# Altium integrated library Maxim Digital Potentiometers.IntLib: 1045 symbols (part 24 of 42)
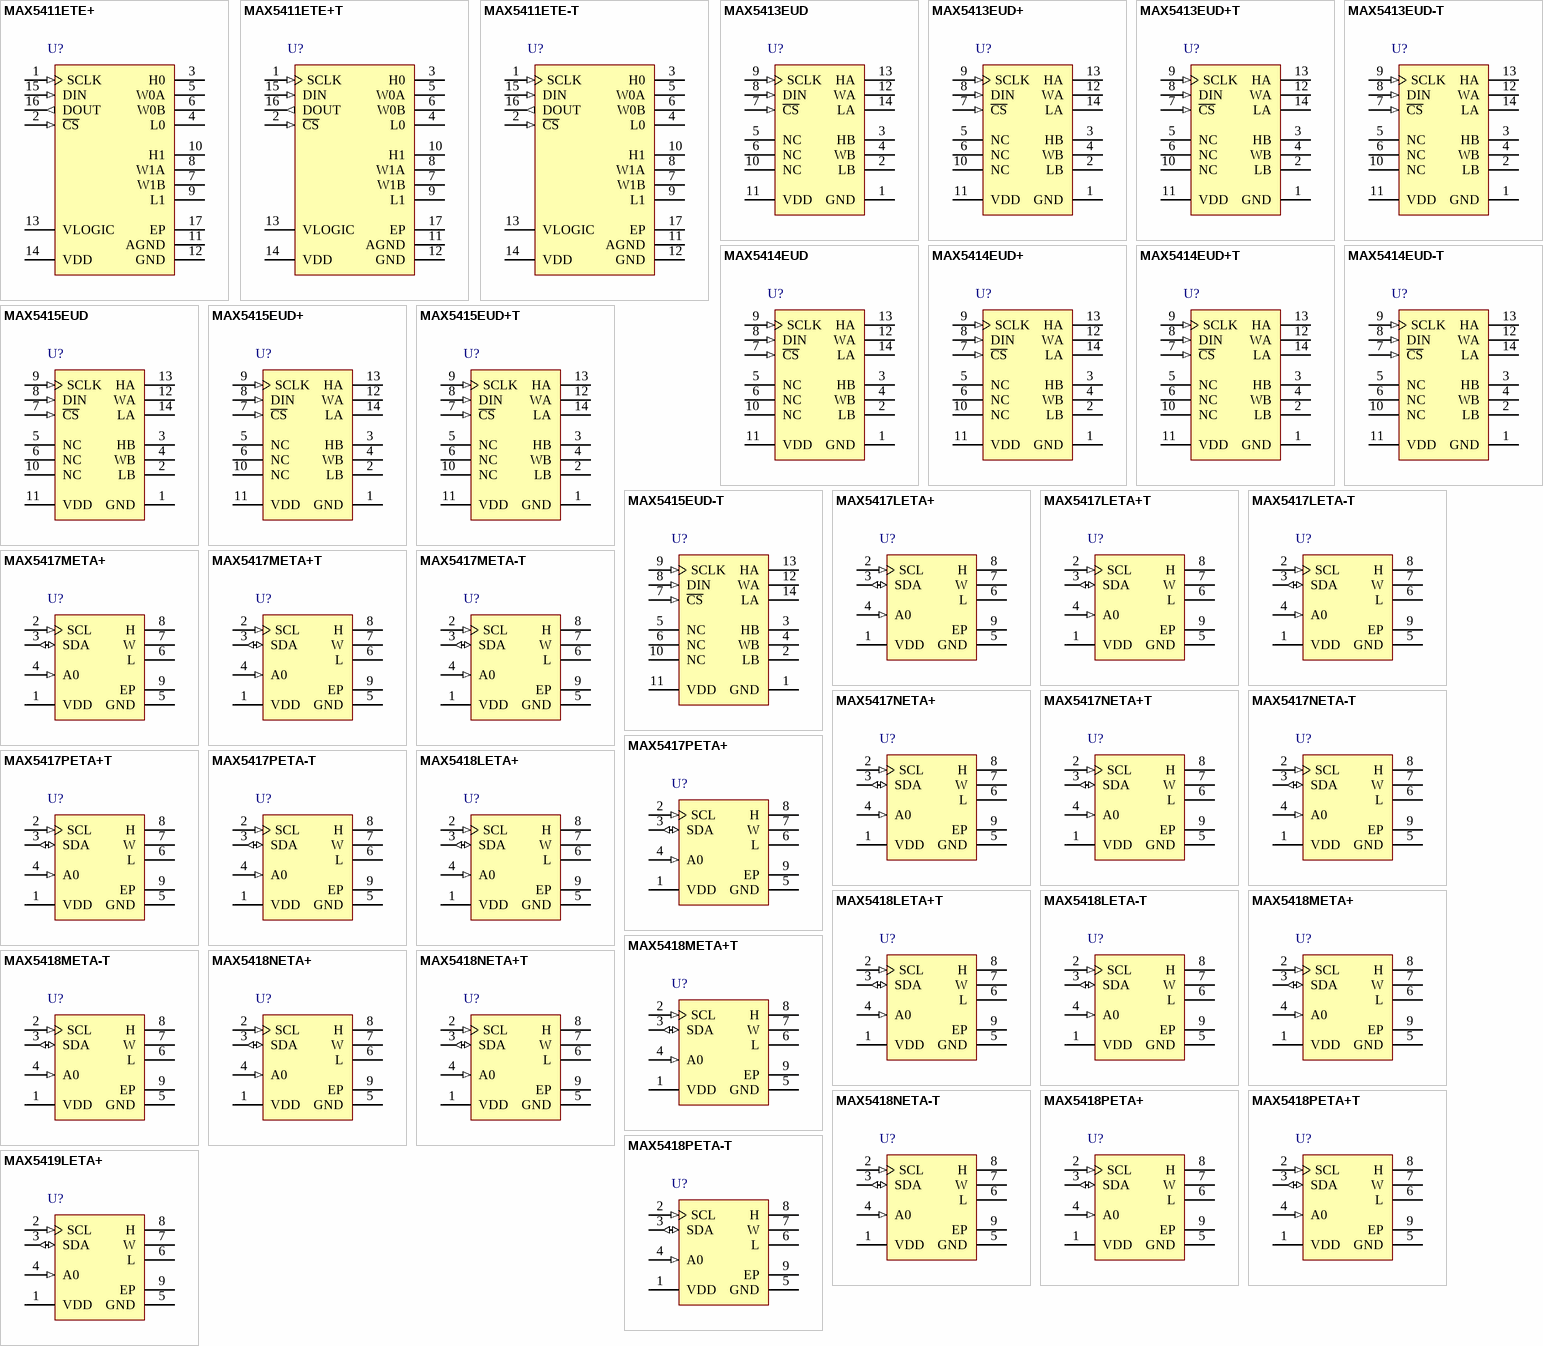
[diagram p52: symbols MAX5411ETE+ to MAX5419LETA+]

## MAX5417META+
designator U?
50 kOhm, I2C-Interface Digital Potentiometer with 2-Wire Serial Control Interface, Non-Volatile, Linear Taper, 256 Steps, -40 to 85 degC, 8-pin TDFN-EP (T833+2), Pb-Free; PartNumber: MAX5417META+; DatasheetVersion: Rev. 4; PackageVersion: Rev. J, 08/2009; PackageReference: T833+2; PackageDescription: 8-Pin Plastic Very Very Thin Dual Flatpack No Leads, Exposed Pad (T833+2); Supplier 1: Mouser; Supplier Part Number 1: N/A; Control Interface: 2-Wire Serial; Features: EEPROM Wiper Memory; Mounting Technology: Surface Mount; Code_JEDEC: MO229; ComponentLink1Description: Manufacturer URL; ComponentLink1URL: http://www.maximintegrated.com/; ComponentLink2Description: Datasheet; ComponentLink2URL: http://datasheets.maximintegrated.com/en/ds/MAX5417-MAX5419.pdf; ComponentLink3Description: Package Specification; ComponentLink3URL: http://pdfserv.maximintegrated.com/package_dwgs/21-0137.PDF
footprint MAXM-T833+2_V (SON, 8-Leads, Body 3x3 mm, Pitch 0.65mm, Thermal Pad 2.3x1.5mm)
pins: 1 VDD (power) "Power-Supply Input. 2.7V to 5.25V voltage range. Bypass with a 0.1uF capacitor from VDD to GND.", 2 SCL (in) "I2C-Interface Clock Input", 3 SDA (io) "I2C-Interface Data Input", 4 A0 (in) "Address Input. Sets the A0 bit in the device ID address.", 5 GND (power) "Ground", 6 L "Low Terminal", 7 W "Wiper Terminal", 8 H "High Terminal", 9 EP (power) "Exposed Pad. Internally connected to GND. Connect to a large ground plane to maximize thermal performance. Not intended as an electrical point."

## MAX5417META+T
designator U?
50 kOhm, I2C-Interface Digital Potentiometer with 2-Wire Serial Control Interface, Non-Volatile, Linear Taper, 256 Steps, -40 to 85 degC, 8-pin TDFN-EP (T833+2), Pb-Free, Tape and Reel; PartNumber: MAX5417META+T; DatasheetVersion: Rev. 4; PackageVersion: Rev. J, 08/2009; PackageReference: T833+2; PackageDescription: 8-Pin Plastic Very Very Thin Dual Flatpack No Leads, Exposed Pad (T833+2); Supplier 1: Digi-Key; Supplier Part Number 1: MAX5417META+TTR-ND; Supplier 2: Digi-Key; Supplier Part Number 2: MAX5417META+TCT-ND; Supplier 3: Digi-Key; Supplier Part Number 3: MAX5417META+TDKR-ND; Supplier 4: Mouser; Supplier Part Number 4: 700-MAX5417METAT; Control Interface: 2-Wire Serial; Features: EEPROM Wiper Memory; Mounting Technology: Surface Mount; Code_JEDEC: MO229; ComponentLink1Description: Manufacturer URL; ComponentLink1URL: http://www.maximintegrated.com/; ComponentLink2Description: Datasheet; ComponentLink2URL: http://datasheets.maximintegrated.com/en/ds/MAX5417-MAX5419.pdf; ComponentLink3Description: Package Specification; ComponentLink3URL: http://pdfserv.maximintegrated.com/package_dwgs/21-0137.PDF
footprint MAXM-T833+2_V (SON, 8-Leads, Body 3x3 mm, Pitch 0.65mm, Thermal Pad 2.3x1.5mm)
pins: 1 VDD (power) "Power-Supply Input. 2.7V to 5.25V voltage range. Bypass with a 0.1uF capacitor from VDD to GND.", 2 SCL (in) "I2C-Interface Clock Input", 3 SDA (io) "I2C-Interface Data Input", 4 A0 (in) "Address Input. Sets the A0 bit in the device ID address.", 5 GND (power) "Ground", 6 L "Low Terminal", 7 W "Wiper Terminal", 8 H "High Terminal", 9 EP (power) "Exposed Pad. Internally connected to GND. Connect to a large ground plane to maximize thermal performance. Not intended as an electrical point."

## MAX5417META-T
designator U?
50 kOhm, I2C-Interface Digital Potentiometer with 2-Wire Serial Control Interface, Non-Volatile, Linear Taper, 256 Steps, -40 to 85 degC, 8-pin TDFN-EP (T833-2), Tape and Reel; PartNumber: MAX5417META-T; DatasheetVersion: Rev. 4; PackageVersion: Rev. J, 08/2009; PackageReference: T833-2; PackageDescription: 8-Pin Plastic Very Very Thin Dual Flatpack No Leads, Exposed Pad, Body 3 x 3 mm, Pitch 0.65 mm; Supplier 1: Mouser; Supplier Part Number 1: N/A; Control Interface: 2-Wire Serial; Features: EEPROM Wiper Memory; Mounting Technology: Surface Mount; Code_JEDEC: MO229; ComponentLink1Description: Manufacturer URL; ComponentLink1URL: http://www.maximintegrated.com/; ComponentLink2Description: Datasheet; ComponentLink2URL: http://datasheets.maximintegrated.com/en/ds/MAX5417-MAX5419.pdf; ComponentLink3Description: Package Specification; ComponentLink3URL: http://pdfserv.maximintegrated.com/package_dwgs/21-0137.PDF
footprint MAXM-T833-2_V (SON, 8-Leads, Body 3x3mm, Pitch 0.65mm, Thermal Pad 2.3x1.5mm, Recommended)
pins: 1 VDD (power) "Power-Supply Input. 2.7V to 5.25V voltage range. Bypass with a 0.1uF capacitor from VDD to GND.", 2 SCL (in) "I2C-Interface Clock Input", 3 SDA (io) "I2C-Interface Data Input", 4 A0 (in) "Address Input. Sets the A0 bit in the device ID address.", 5 GND (power) "Ground", 6 L "Low Terminal", 7 W "Wiper Terminal", 8 H "High Terminal", 9 EP (power) "Exposed Pad. Internally connected to GND. Connect to a large ground plane to maximize thermal performance. Not intended as an electrical point."

## MAX5417NETA+
designator U?
50 kOhm, I2C-Interface Digital Potentiometer with 2-Wire Serial Control Interface, Non-Volatile, Linear Taper, 256 Steps, -40 to 85 degC, 8-pin TDFN-EP (T833+2), Pb-Free; PartNumber: MAX5417NETA+; DatasheetVersion: Rev. 4; PackageVersion: Rev. J, 08/2009; PackageReference: T833+2; PackageDescription: 8-Pin Plastic Very Very Thin Dual Flatpack No Leads, Exposed Pad (T833+2); Supplier 1: Mouser; Supplier Part Number 1: N/A; Control Interface: 2-Wire Serial; Features: EEPROM Wiper Memory; Mounting Technology: Surface Mount; Code_JEDEC: MO229; ComponentLink1Description: Manufacturer URL; ComponentLink1URL: http://www.maximintegrated.com/; ComponentLink2Description: Datasheet; ComponentLink2URL: http://datasheets.maximintegrated.com/en/ds/MAX5417-MAX5419.pdf; ComponentLink3Description: Package Specification; ComponentLink3URL: http://pdfserv.maximintegrated.com/package_dwgs/21-0137.PDF
footprint MAXM-T833+2_V (SON, 8-Leads, Body 3x3 mm, Pitch 0.65mm, Thermal Pad 2.3x1.5mm)
pins: 1 VDD (power) "Power-Supply Input. 2.7V to 5.25V voltage range. Bypass with a 0.1uF capacitor from VDD to GND.", 2 SCL (in) "I2C-Interface Clock Input", 3 SDA (io) "I2C-Interface Data Input", 4 A0 (in) "Address Input. Sets the A0 bit in the device ID address.", 5 GND (power) "Ground", 6 L "Low Terminal", 7 W "Wiper Terminal", 8 H "High Terminal", 9 EP (power) "Exposed Pad. Internally connected to GND. Connect to a large ground plane to maximize thermal performance. Not intended as an electrical point."

## MAX5417NETA+T
designator U?
50 kOhm, I2C-Interface Digital Potentiometer with 2-Wire Serial Control Interface, Non-Volatile, Linear Taper, 256 Steps, -40 to 85 degC, 8-pin TDFN-EP (T833+2), Pb-Free, Tape and Reel; PartNumber: MAX5417NETA+T; DatasheetVersion: Rev. 4; PackageVersion: Rev. J, 08/2009; PackageReference: T833+2; PackageDescription: 8-Pin Plastic Very Very Thin Dual Flatpack No Leads, Exposed Pad (T833+2); Supplier 1: Digi-Key; Supplier Part Number 1: MAX5417NETA+T-ND; Supplier 2: Mouser; Supplier Part Number 2: 700-MAX5417NETA+T; Control Interface: 2-Wire Serial; Features: EEPROM Wiper Memory; Mounting Technology: Surface Mount; Code_JEDEC: MO229; ComponentLink1Description: Manufacturer URL; ComponentLink1URL: http://www.maximintegrated.com/; ComponentLink2Description: Datasheet; ComponentLink2URL: http://datasheets.maximintegrated.com/en/ds/MAX5417-MAX5419.pdf; ComponentLink3Description: Package Specification; ComponentLink3URL: http://pdfserv.maximintegrated.com/package_dwgs/21-0137.PDF
footprint MAXM-T833+2_V (SON, 8-Leads, Body 3x3 mm, Pitch 0.65mm, Thermal Pad 2.3x1.5mm)
pins: 1 VDD (power) "Power-Supply Input. 2.7V to 5.25V voltage range. Bypass with a 0.1uF capacitor from VDD to GND.", 2 SCL (in) "I2C-Interface Clock Input", 3 SDA (io) "I2C-Interface Data Input", 4 A0 (in) "Address Input. Sets the A0 bit in the device ID address.", 5 GND (power) "Ground", 6 L "Low Terminal", 7 W "Wiper Terminal", 8 H "High Terminal", 9 EP (power) "Exposed Pad. Internally connected to GND. Connect to a large ground plane to maximize thermal performance. Not intended as an electrical point."

## MAX5417NETA-T
designator U?
50 kOhm, I2C-Interface Digital Potentiometer with 2-Wire Serial Control Interface, Non-Volatile, Linear Taper, 256 Steps, -40 to 85 degC, 8-pin TDFN-EP (T833-2), Tape and Reel; PartNumber: MAX5417NETA-T; DatasheetVersion: Rev. 4; PackageVersion: Rev. J, 08/2009; PackageReference: T833-2; PackageDescription: 8-Pin Plastic Very Very Thin Dual Flatpack No Leads, Exposed Pad, Body 3 x 3 mm, Pitch 0.65 mm; Supplier 1: Mouser; Supplier Part Number 1: N/A; Control Interface: 2-Wire Serial; Features: EEPROM Wiper Memory; Mounting Technology: Surface Mount; Code_JEDEC: MO229; ComponentLink1Description: Manufacturer URL; ComponentLink1URL: http://www.maximintegrated.com/; ComponentLink2Description: Datasheet; ComponentLink2URL: http://datasheets.maximintegrated.com/en/ds/MAX5417-MAX5419.pdf; ComponentLink3Description: Package Specification; ComponentLink3URL: http://pdfserv.maximintegrated.com/package_dwgs/21-0137.PDF
footprint MAXM-T833-2_V (SON, 8-Leads, Body 3x3mm, Pitch 0.65mm, Thermal Pad 2.3x1.5mm, Recommended)
pins: 1 VDD (power) "Power-Supply Input. 2.7V to 5.25V voltage range. Bypass with a 0.1uF capacitor from VDD to GND.", 2 SCL (in) "I2C-Interface Clock Input", 3 SDA (io) "I2C-Interface Data Input", 4 A0 (in) "Address Input. Sets the A0 bit in the device ID address.", 5 GND (power) "Ground", 6 L "Low Terminal", 7 W "Wiper Terminal", 8 H "High Terminal", 9 EP (power) "Exposed Pad. Internally connected to GND. Connect to a large ground plane to maximize thermal performance. Not intended as an electrical point."

## MAX5417PETA+
designator U?
50 kOhm, I2C-Interface Digital Potentiometer with 2-Wire Serial Control Interface, Non-Volatile, Linear Taper, 256 Steps, -40 to 85 degC, 8-pin TDFN-EP (T833+2), Pb-Free; PartNumber: MAX5417PETA+; DatasheetVersion: Rev. 4; PackageVersion: Rev. J, 08/2009; PackageReference: T833+2; PackageDescription: 8-Pin Plastic Very Very Thin Dual Flatpack No Leads, Exposed Pad (T833+2); Supplier 1: Mouser; Supplier Part Number 1: N/A; Control Interface: 2-Wire Serial; Features: EEPROM Wiper Memory; Mounting Technology: Surface Mount; Code_JEDEC: MO229; ComponentLink1Description: Manufacturer URL; ComponentLink1URL: http://www.maximintegrated.com/; ComponentLink2Description: Datasheet; ComponentLink2URL: http://datasheets.maximintegrated.com/en/ds/MAX5417-MAX5419.pdf; ComponentLink3Description: Package Specification; ComponentLink3URL: http://pdfserv.maximintegrated.com/package_dwgs/21-0137.PDF
footprint MAXM-T833+2_V (SON, 8-Leads, Body 3x3 mm, Pitch 0.65mm, Thermal Pad 2.3x1.5mm)
pins: 1 VDD (power) "Power-Supply Input. 2.7V to 5.25V voltage range. Bypass with a 0.1uF capacitor from VDD to GND.", 2 SCL (in) "I2C-Interface Clock Input", 3 SDA (io) "I2C-Interface Data Input", 4 A0 (in) "Address Input. Sets the A0 bit in the device ID address.", 5 GND (power) "Ground", 6 L "Low Terminal", 7 W "Wiper Terminal", 8 H "High Terminal", 9 EP (power) "Exposed Pad. Internally connected to GND. Connect to a large ground plane to maximize thermal performance. Not intended as an electrical point."

## MAX5417PETA+T
designator U?
50 kOhm, I2C-Interface Digital Potentiometer with 2-Wire Serial Control Interface, Non-Volatile, Linear Taper, 256 Steps, -40 to 85 degC, 8-pin TDFN-EP (T833+2), Pb-Free, Tape and Reel; PartNumber: MAX5417PETA+T; DatasheetVersion: Rev. 4; PackageVersion: Rev. J, 08/2009; PackageReference: T833+2; PackageDescription: 8-Pin Plastic Very Very Thin Dual Flatpack No Leads, Exposed Pad (T833+2); Supplier 1: Digi-Key; Supplier Part Number 1: MAX5417PETA+T-ND; Supplier 2: Mouser; Supplier Part Number 2: 700-MAX5417PETA+T; Control Interface: 2-Wire Serial; Features: EEPROM Wiper Memory; Mounting Technology: Surface Mount; Code_JEDEC: MO229; ComponentLink1Description: Manufacturer URL; ComponentLink1URL: http://www.maximintegrated.com/; ComponentLink2Description: Datasheet; ComponentLink2URL: http://datasheets.maximintegrated.com/en/ds/MAX5417-MAX5419.pdf; ComponentLink3Description: Package Specification; ComponentLink3URL: http://pdfserv.maximintegrated.com/package_dwgs/21-0137.PDF
footprint MAXM-T833+2_V (SON, 8-Leads, Body 3x3 mm, Pitch 0.65mm, Thermal Pad 2.3x1.5mm)
pins: 1 VDD (power) "Power-Supply Input. 2.7V to 5.25V voltage range. Bypass with a 0.1uF capacitor from VDD to GND.", 2 SCL (in) "I2C-Interface Clock Input", 3 SDA (io) "I2C-Interface Data Input", 4 A0 (in) "Address Input. Sets the A0 bit in the device ID address.", 5 GND (power) "Ground", 6 L "Low Terminal", 7 W "Wiper Terminal", 8 H "High Terminal", 9 EP (power) "Exposed Pad. Internally connected to GND. Connect to a large ground plane to maximize thermal performance. Not intended as an electrical point."

## MAX5417PETA-T
designator U?
50 kOhm, I2C-Interface Digital Potentiometer with 2-Wire Serial Control Interface, Non-Volatile, Linear Taper, 256 Steps, -40 to 85 degC, 8-pin TDFN-EP (T833-2), Tape and Reel; PartNumber: MAX5417PETA-T; DatasheetVersion: Rev. 4; PackageVersion: Rev. J, 08/2009; PackageReference: T833-2; PackageDescription: 8-Pin Plastic Very Very Thin Dual Flatpack No Leads, Exposed Pad, Body 3 x 3 mm, Pitch 0.65 mm; Supplier 1: Mouser; Supplier Part Number 1: N/A; Control Interface: 2-Wire Serial; Features: EEPROM Wiper Memory; Mounting Technology: Surface Mount; Code_JEDEC: MO229; ComponentLink1Description: Manufacturer URL; ComponentLink1URL: http://www.maximintegrated.com/; ComponentLink2Description: Datasheet; ComponentLink2URL: http://datasheets.maximintegrated.com/en/ds/MAX5417-MAX5419.pdf; ComponentLink3Description: Package Specification; ComponentLink3URL: http://pdfserv.maximintegrated.com/package_dwgs/21-0137.PDF
footprint MAXM-T833-2_V (SON, 8-Leads, Body 3x3mm, Pitch 0.65mm, Thermal Pad 2.3x1.5mm, Recommended)
pins: 1 VDD (power) "Power-Supply Input. 2.7V to 5.25V voltage range. Bypass with a 0.1uF capacitor from VDD to GND.", 2 SCL (in) "I2C-Interface Clock Input", 3 SDA (io) "I2C-Interface Data Input", 4 A0 (in) "Address Input. Sets the A0 bit in the device ID address.", 5 GND (power) "Ground", 6 L "Low Terminal", 7 W "Wiper Terminal", 8 H "High Terminal", 9 EP (power) "Exposed Pad. Internally connected to GND. Connect to a large ground plane to maximize thermal performance. Not intended as an electrical point."

## MAX5418LETA+
designator U?
100 kOhm, I2C-Interface Digital Potentiometer with 2-Wire Serial Control Interface, Non-Volatile, Linear Taper, 256 Steps, -40 to 85 degC, 8-pin TDFN-EP (T833+2), Pb-Free; PartNumber: MAX5418LETA+; DatasheetVersion: Rev. 4; PackageVersion: Rev. J, 08/2009; PackageReference: T833+2; PackageDescription: 8-Pin Plastic Very Very Thin Dual Flatpack No Leads, Exposed Pad (T833+2); Supplier 1: Mouser; Supplier Part Number 1: N/A; Control Interface: 2-Wire Serial; Features: EEPROM Wiper Memory; Mounting Technology: Surface Mount; Code_JEDEC: MO229; ComponentLink1Description: Manufacturer URL; ComponentLink1URL: http://www.maximintegrated.com/; ComponentLink2Description: Datasheet; ComponentLink2URL: http://datasheets.maximintegrated.com/en/ds/MAX5417-MAX5419.pdf; ComponentLink3Description: Package Specification; ComponentLink3URL: http://pdfserv.maximintegrated.com/package_dwgs/21-0137.PDF
footprint MAXM-T833+2_V (SON, 8-Leads, Body 3x3 mm, Pitch 0.65mm, Thermal Pad 2.3x1.5mm)
pins: 1 VDD (power) "Power-Supply Input. 2.7V to 5.25V voltage range. Bypass with a 0.1uF capacitor from VDD to GND.", 2 SCL (in) "I2C-Interface Clock Input", 3 SDA (io) "I2C-Interface Data Input", 4 A0 (in) "Address Input. Sets the A0 bit in the device ID address.", 5 GND (power) "Ground", 6 L "Low Terminal", 7 W "Wiper Terminal", 8 H "High Terminal", 9 EP (power) "Exposed Pad. Internally connected to GND. Connect to a large ground plane to maximize thermal performance. Not intended as an electrical point."

## MAX5418LETA+T
designator U?
100 kOhm, I2C-Interface Digital Potentiometer with 2-Wire Serial Control Interface, Non-Volatile, Linear Taper, 256 Steps, -40 to 85 degC, 8-pin TDFN-EP (T833+2), Pb-Free, Tape and Reel; PartNumber: MAX5418LETA+T; DatasheetVersion: Rev. 4; PackageVersion: Rev. J, 08/2009; PackageReference: T833+2; PackageDescription: 8-Pin Plastic Very Very Thin Dual Flatpack No Leads, Exposed Pad (T833+2); Supplier 1: Digi-Key; Supplier Part Number 1: MAX5418LETA+TTR-ND; Supplier 2: Digi-Key; Supplier Part Number 2: MAX5418LETA+TCT-ND; Supplier 3: Digi-Key; Supplier Part Number 3: MAX5418LETA+TDKR-ND; Supplier 4: Mouser; Supplier Part Number 4: 700-MAX5418LETAT; Control Interface: 2-Wire Serial; Features: EEPROM Wiper Memory; Mounting Technology: Surface Mount; Code_JEDEC: MO229; ComponentLink1Description: Manufacturer URL; ComponentLink1URL: http://www.maximintegrated.com/; ComponentLink2Description: Datasheet; ComponentLink2URL: http://datasheets.maximintegrated.com/en/ds/MAX5417-MAX5419.pdf; ComponentLink3Description: Package Specification; ComponentLink3URL: http://pdfserv.maximintegrated.com/package_dwgs/21-0137.PDF
footprint MAXM-T833+2_V (SON, 8-Leads, Body 3x3 mm, Pitch 0.65mm, Thermal Pad 2.3x1.5mm)
pins: 1 VDD (power) "Power-Supply Input. 2.7V to 5.25V voltage range. Bypass with a 0.1uF capacitor from VDD to GND.", 2 SCL (in) "I2C-Interface Clock Input", 3 SDA (io) "I2C-Interface Data Input", 4 A0 (in) "Address Input. Sets the A0 bit in the device ID address.", 5 GND (power) "Ground", 6 L "Low Terminal", 7 W "Wiper Terminal", 8 H "High Terminal", 9 EP (power) "Exposed Pad. Internally connected to GND. Connect to a large ground plane to maximize thermal performance. Not intended as an electrical point."

## MAX5418LETA-T
designator U?
100 kOhm, I2C-Interface Digital Potentiometer with 2-Wire Serial Control Interface, Non-Volatile, Linear Taper, 256 Steps, -40 to 85 degC, 8-pin TDFN-EP (T833-2), Tape and Reel; PartNumber: MAX5418LETA-T; DatasheetVersion: Rev. 4; PackageVersion: Rev. J, 08/2009; PackageReference: T833-2; PackageDescription: 8-Pin Plastic Very Very Thin Dual Flatpack No Leads, Exposed Pad, Body 3 x 3 mm, Pitch 0.65 mm; Supplier 1: Mouser; Supplier Part Number 1: N/A; Control Interface: 2-Wire Serial; Features: EEPROM Wiper Memory; Mounting Technology: Surface Mount; Code_JEDEC: MO229; ComponentLink1Description: Manufacturer URL; ComponentLink1URL: http://www.maximintegrated.com/; ComponentLink2Description: Datasheet; ComponentLink2URL: http://datasheets.maximintegrated.com/en/ds/MAX5417-MAX5419.pdf; ComponentLink3Description: Package Specification; ComponentLink3URL: http://pdfserv.maximintegrated.com/package_dwgs/21-0137.PDF
footprint MAXM-T833-2_V (SON, 8-Leads, Body 3x3mm, Pitch 0.65mm, Thermal Pad 2.3x1.5mm, Recommended)
pins: 1 VDD (power) "Power-Supply Input. 2.7V to 5.25V voltage range. Bypass with a 0.1uF capacitor from VDD to GND.", 2 SCL (in) "I2C-Interface Clock Input", 3 SDA (io) "I2C-Interface Data Input", 4 A0 (in) "Address Input. Sets the A0 bit in the device ID address.", 5 GND (power) "Ground", 6 L "Low Terminal", 7 W "Wiper Terminal", 8 H "High Terminal", 9 EP (power) "Exposed Pad. Internally connected to GND. Connect to a large ground plane to maximize thermal performance. Not intended as an electrical point."

## MAX5418META+
designator U?
100 kOhm, I2C-Interface Digital Potentiometer with 2-Wire Serial Control Interface, Non-Volatile, Linear Taper, 256 Steps, -40 to 85 degC, 8-pin TDFN-EP (T833+2), Pb-Free; PartNumber: MAX5418META+; DatasheetVersion: Rev. 4; PackageVersion: Rev. J, 08/2009; PackageReference: T833+2; PackageDescription: 8-Pin Plastic Very Very Thin Dual Flatpack No Leads, Exposed Pad (T833+2); Supplier 1: Mouser; Supplier Part Number 1: N/A; Control Interface: 2-Wire Serial; Features: EEPROM Wiper Memory; Mounting Technology: Surface Mount; Code_JEDEC: MO229; ComponentLink1Description: Manufacturer URL; ComponentLink1URL: http://www.maximintegrated.com/; ComponentLink2Description: Datasheet; ComponentLink2URL: http://datasheets.maximintegrated.com/en/ds/MAX5417-MAX5419.pdf; ComponentLink3Description: Package Specification; ComponentLink3URL: http://pdfserv.maximintegrated.com/package_dwgs/21-0137.PDF
footprint MAXM-T833+2_V (SON, 8-Leads, Body 3x3 mm, Pitch 0.65mm, Thermal Pad 2.3x1.5mm)
pins: 1 VDD (power) "Power-Supply Input. 2.7V to 5.25V voltage range. Bypass with a 0.1uF capacitor from VDD to GND.", 2 SCL (in) "I2C-Interface Clock Input", 3 SDA (io) "I2C-Interface Data Input", 4 A0 (in) "Address Input. Sets the A0 bit in the device ID address.", 5 GND (power) "Ground", 6 L "Low Terminal", 7 W "Wiper Terminal", 8 H "High Terminal", 9 EP (power) "Exposed Pad. Internally connected to GND. Connect to a large ground plane to maximize thermal performance. Not intended as an electrical point."

## MAX5418META+T
designator U?
100 kOhm, I2C-Interface Digital Potentiometer with 2-Wire Serial Control Interface, Non-Volatile, Linear Taper, 256 Steps, -40 to 85 degC, 8-pin TDFN-EP (T833+2), Pb-Free, Tape and Reel; PartNumber: MAX5418META+T; DatasheetVersion: Rev. 4; PackageVersion: Rev. J, 08/2009; PackageReference: T833+2; PackageDescription: 8-Pin Plastic Very Very Thin Dual Flatpack No Leads, Exposed Pad (T833+2); Supplier 1: Digi-Key; Supplier Part Number 1: MAX5418META+T-ND; Supplier 2: Mouser; Supplier Part Number 2: 700-MAX5418METAT; Control Interface: 2-Wire Serial; Features: EEPROM Wiper Memory; Mounting Technology: Surface Mount; Code_JEDEC: MO229; ComponentLink1Description: Manufacturer URL; ComponentLink1URL: http://www.maximintegrated.com/; ComponentLink2Description: Datasheet; ComponentLink2URL: http://datasheets.maximintegrated.com/en/ds/MAX5417-MAX5419.pdf; ComponentLink3Description: Package Specification; ComponentLink3URL: http://pdfserv.maximintegrated.com/package_dwgs/21-0137.PDF
footprint MAXM-T833+2_V (SON, 8-Leads, Body 3x3 mm, Pitch 0.65mm, Thermal Pad 2.3x1.5mm)
pins: 1 VDD (power) "Power-Supply Input. 2.7V to 5.25V voltage range. Bypass with a 0.1uF capacitor from VDD to GND.", 2 SCL (in) "I2C-Interface Clock Input", 3 SDA (io) "I2C-Interface Data Input", 4 A0 (in) "Address Input. Sets the A0 bit in the device ID address.", 5 GND (power) "Ground", 6 L "Low Terminal", 7 W "Wiper Terminal", 8 H "High Terminal", 9 EP (power) "Exposed Pad. Internally connected to GND. Connect to a large ground plane to maximize thermal performance. Not intended as an electrical point."

## MAX5418META-T
designator U?
100 kOhm, I2C-Interface Digital Potentiometer with 2-Wire Serial Control Interface, Non-Volatile, Linear Taper, 256 Steps, -40 to 85 degC, 8-pin TDFN-EP (T833-2), Tape and Reel; PartNumber: MAX5418META-T; DatasheetVersion: Rev. 4; PackageVersion: Rev. J, 08/2009; PackageReference: T833-2; PackageDescription: 8-Pin Plastic Very Very Thin Dual Flatpack No Leads, Exposed Pad, Body 3 x 3 mm, Pitch 0.65 mm; Supplier 1: Mouser; Supplier Part Number 1: N/A; Control Interface: 2-Wire Serial; Features: EEPROM Wiper Memory; Mounting Technology: Surface Mount; Code_JEDEC: MO229; ComponentLink1Description: Manufacturer URL; ComponentLink1URL: http://www.maximintegrated.com/; ComponentLink2Description: Datasheet; ComponentLink2URL: http://datasheets.maximintegrated.com/en/ds/MAX5417-MAX5419.pdf; ComponentLink3Description: Package Specification; ComponentLink3URL: http://pdfserv.maximintegrated.com/package_dwgs/21-0137.PDF
footprint MAXM-T833-2_V (SON, 8-Leads, Body 3x3mm, Pitch 0.65mm, Thermal Pad 2.3x1.5mm, Recommended)
pins: 1 VDD (power) "Power-Supply Input. 2.7V to 5.25V voltage range. Bypass with a 0.1uF capacitor from VDD to GND.", 2 SCL (in) "I2C-Interface Clock Input", 3 SDA (io) "I2C-Interface Data Input", 4 A0 (in) "Address Input. Sets the A0 bit in the device ID address.", 5 GND (power) "Ground", 6 L "Low Terminal", 7 W "Wiper Terminal", 8 H "High Terminal", 9 EP (power) "Exposed Pad. Internally connected to GND. Connect to a large ground plane to maximize thermal performance. Not intended as an electrical point."

## MAX5418NETA+
designator U?
100 kOhm, I2C-Interface Digital Potentiometer with 2-Wire Serial Control Interface, Non-Volatile, Linear Taper, 256 Steps, -40 to 85 degC, 8-pin TDFN-EP (T833+2), Pb-Free; PartNumber: MAX5418NETA+; DatasheetVersion: Rev. 4; PackageVersion: Rev. J, 08/2009; PackageReference: T833+2; PackageDescription: 8-Pin Plastic Very Very Thin Dual Flatpack No Leads, Exposed Pad (T833+2); Supplier 1: Mouser; Supplier Part Number 1: N/A; Control Interface: 2-Wire Serial; Features: EEPROM Wiper Memory; Mounting Technology: Surface Mount; Code_JEDEC: MO229; ComponentLink1Description: Manufacturer URL; ComponentLink1URL: http://www.maximintegrated.com/; ComponentLink2Description: Datasheet; ComponentLink2URL: http://datasheets.maximintegrated.com/en/ds/MAX5417-MAX5419.pdf; ComponentLink3Description: Package Specification; ComponentLink3URL: http://pdfserv.maximintegrated.com/package_dwgs/21-0137.PDF
footprint MAXM-T833+2_V (SON, 8-Leads, Body 3x3 mm, Pitch 0.65mm, Thermal Pad 2.3x1.5mm)
pins: 1 VDD (power) "Power-Supply Input. 2.7V to 5.25V voltage range. Bypass with a 0.1uF capacitor from VDD to GND.", 2 SCL (in) "I2C-Interface Clock Input", 3 SDA (io) "I2C-Interface Data Input", 4 A0 (in) "Address Input. Sets the A0 bit in the device ID address.", 5 GND (power) "Ground", 6 L "Low Terminal", 7 W "Wiper Terminal", 8 H "High Terminal", 9 EP (power) "Exposed Pad. Internally connected to GND. Connect to a large ground plane to maximize thermal performance. Not intended as an electrical point."

## MAX5418NETA+T
designator U?
100 kOhm, I2C-Interface Digital Potentiometer with 2-Wire Serial Control Interface, Non-Volatile, Linear Taper, 256 Steps, -40 to 85 degC, 8-pin TDFN-EP (T833+2), Pb-Free, Tape and Reel; PartNumber: MAX5418NETA+T; DatasheetVersion: Rev. 4; PackageVersion: Rev. J, 08/2009; PackageReference: T833+2; PackageDescription: 8-Pin Plastic Very Very Thin Dual Flatpack No Leads, Exposed Pad (T833+2); Supplier 1: Digi-Key; Supplier Part Number 1: MAX5418NETA+T-ND; Supplier 2: Mouser; Supplier Part Number 2: 700-MAX5418NETAT; Control Interface: 2-Wire Serial; Features: EEPROM Wiper Memory; Mounting Technology: Surface Mount; Code_JEDEC: MO229; ComponentLink1Description: Manufacturer URL; ComponentLink1URL: http://www.maximintegrated.com/; ComponentLink2Description: Datasheet; ComponentLink2URL: http://datasheets.maximintegrated.com/en/ds/MAX5417-MAX5419.pdf; ComponentLink3Description: Package Specification; ComponentLink3URL: http://pdfserv.maximintegrated.com/package_dwgs/21-0137.PDF
footprint MAXM-T833+2_V (SON, 8-Leads, Body 3x3 mm, Pitch 0.65mm, Thermal Pad 2.3x1.5mm)
pins: 1 VDD (power) "Power-Supply Input. 2.7V to 5.25V voltage range. Bypass with a 0.1uF capacitor from VDD to GND.", 2 SCL (in) "I2C-Interface Clock Input", 3 SDA (io) "I2C-Interface Data Input", 4 A0 (in) "Address Input. Sets the A0 bit in the device ID address.", 5 GND (power) "Ground", 6 L "Low Terminal", 7 W "Wiper Terminal", 8 H "High Terminal", 9 EP (power) "Exposed Pad. Internally connected to GND. Connect to a large ground plane to maximize thermal performance. Not intended as an electrical point."

## MAX5418NETA-T
designator U?
100 kOhm, I2C-Interface Digital Potentiometer with 2-Wire Serial Control Interface, Non-Volatile, Linear Taper, 256 Steps, -40 to 85 degC, 8-pin TDFN-EP (T833-2), Tape and Reel; PartNumber: MAX5418NETA-T; DatasheetVersion: Rev. 4; PackageVersion: Rev. J, 08/2009; PackageReference: T833-2; PackageDescription: 8-Pin Plastic Very Very Thin Dual Flatpack No Leads, Exposed Pad, Body 3 x 3 mm, Pitch 0.65 mm; Supplier 1: Mouser; Supplier Part Number 1: N/A; Control Interface: 2-Wire Serial; Features: EEPROM Wiper Memory; Mounting Technology: Surface Mount; Code_JEDEC: MO229; ComponentLink1Description: Manufacturer URL; ComponentLink1URL: http://www.maximintegrated.com/; ComponentLink2Description: Datasheet; ComponentLink2URL: http://datasheets.maximintegrated.com/en/ds/MAX5417-MAX5419.pdf; ComponentLink3Description: Package Specification; ComponentLink3URL: http://pdfserv.maximintegrated.com/package_dwgs/21-0137.PDF
footprint MAXM-T833-2_V (SON, 8-Leads, Body 3x3mm, Pitch 0.65mm, Thermal Pad 2.3x1.5mm, Recommended)
pins: 1 VDD (power) "Power-Supply Input. 2.7V to 5.25V voltage range. Bypass with a 0.1uF capacitor from VDD to GND.", 2 SCL (in) "I2C-Interface Clock Input", 3 SDA (io) "I2C-Interface Data Input", 4 A0 (in) "Address Input. Sets the A0 bit in the device ID address.", 5 GND (power) "Ground", 6 L "Low Terminal", 7 W "Wiper Terminal", 8 H "High Terminal", 9 EP (power) "Exposed Pad. Internally connected to GND. Connect to a large ground plane to maximize thermal performance. Not intended as an electrical point."

## MAX5418PETA+
designator U?
100 kOhm, I2C-Interface Digital Potentiometer with 2-Wire Serial Control Interface, Non-Volatile, Linear Taper, 256 Steps, -40 to 85 degC, 8-pin TDFN-EP (T833+2), Pb-Free; PartNumber: MAX5418PETA+; DatasheetVersion: Rev. 4; PackageVersion: Rev. J, 08/2009; PackageReference: T833+2; PackageDescription: 8-Pin Plastic Very Very Thin Dual Flatpack No Leads, Exposed Pad (T833+2); Supplier 1: Mouser; Supplier Part Number 1: N/A; Control Interface: 2-Wire Serial; Features: EEPROM Wiper Memory; Mounting Technology: Surface Mount; Code_JEDEC: MO229; ComponentLink1Description: Manufacturer URL; ComponentLink1URL: http://www.maximintegrated.com/; ComponentLink2Description: Datasheet; ComponentLink2URL: http://datasheets.maximintegrated.com/en/ds/MAX5417-MAX5419.pdf; ComponentLink3Description: Package Specification; ComponentLink3URL: http://pdfserv.maximintegrated.com/package_dwgs/21-0137.PDF
footprint MAXM-T833+2_V (SON, 8-Leads, Body 3x3 mm, Pitch 0.65mm, Thermal Pad 2.3x1.5mm)
pins: 1 VDD (power) "Power-Supply Input. 2.7V to 5.25V voltage range. Bypass with a 0.1uF capacitor from VDD to GND.", 2 SCL (in) "I2C-Interface Clock Input", 3 SDA (io) "I2C-Interface Data Input", 4 A0 (in) "Address Input. Sets the A0 bit in the device ID address.", 5 GND (power) "Ground", 6 L "Low Terminal", 7 W "Wiper Terminal", 8 H "High Terminal", 9 EP (power) "Exposed Pad. Internally connected to GND. Connect to a large ground plane to maximize thermal performance. Not intended as an electrical point."

## MAX5418PETA+T
designator U?
100 kOhm, I2C-Interface Digital Potentiometer with 2-Wire Serial Control Interface, Non-Volatile, Linear Taper, 256 Steps, -40 to 85 degC, 8-pin TDFN-EP (T833+2), Pb-Free, Tape and Reel; PartNumber: MAX5418PETA+T; DatasheetVersion: Rev. 4; PackageVersion: Rev. J, 08/2009; PackageReference: T833+2; PackageDescription: 8-Pin Plastic Very Very Thin Dual Flatpack No Leads, Exposed Pad (T833+2); Supplier 1: Digi-Key; Supplier Part Number 1: MAX5418PETA+TTR-ND; Supplier 2: Digi-Key; Supplier Part Number 2: MAX5418PETA+TCT-ND; Supplier 3: Digi-Key; Supplier Part Number 3: MAX5418PETA+TDKR-ND; Supplier 4: Mouser; Supplier Part Number 4: 700-MAX5418PETAT; Control Interface: 2-Wire Serial; Features: EEPROM Wiper Memory; Mounting Technology: Surface Mount; Code_JEDEC: MO229; ComponentLink1Description: Manufacturer URL; ComponentLink1URL: http://www.maximintegrated.com/; ComponentLink2Description: Datasheet; ComponentLink2URL: http://datasheets.maximintegrated.com/en/ds/MAX5417-MAX5419.pdf; ComponentLink3Description: Package Specification; ComponentLink3URL: http://pdfserv.maximintegrated.com/package_dwgs/21-0137.PDF
footprint MAXM-T833+2_V (SON, 8-Leads, Body 3x3 mm, Pitch 0.65mm, Thermal Pad 2.3x1.5mm)
pins: 1 VDD (power) "Power-Supply Input. 2.7V to 5.25V voltage range. Bypass with a 0.1uF capacitor from VDD to GND.", 2 SCL (in) "I2C-Interface Clock Input", 3 SDA (io) "I2C-Interface Data Input", 4 A0 (in) "Address Input. Sets the A0 bit in the device ID address.", 5 GND (power) "Ground", 6 L "Low Terminal", 7 W "Wiper Terminal", 8 H "High Terminal", 9 EP (power) "Exposed Pad. Internally connected to GND. Connect to a large ground plane to maximize thermal performance. Not intended as an electrical point."

## MAX5418PETA-T
designator U?
100 kOhm, I2C-Interface Digital Potentiometer with 2-Wire Serial Control Interface, Non-Volatile, Linear Taper, 256 Steps, -40 to 85 degC, 8-pin TDFN-EP (T833-2), Tape and Reel; PartNumber: MAX5418PETA-T; DatasheetVersion: Rev. 4; PackageVersion: Rev. J, 08/2009; PackageReference: T833-2; PackageDescription: 8-Pin Plastic Very Very Thin Dual Flatpack No Leads, Exposed Pad, Body 3 x 3 mm, Pitch 0.65 mm; Supplier 1: Mouser; Supplier Part Number 1: N/A; Control Interface: 2-Wire Serial; Features: EEPROM Wiper Memory; Mounting Technology: Surface Mount; Code_JEDEC: MO229; ComponentLink1Description: Manufacturer URL; ComponentLink1URL: http://www.maximintegrated.com/; ComponentLink2Description: Datasheet; ComponentLink2URL: http://datasheets.maximintegrated.com/en/ds/MAX5417-MAX5419.pdf; ComponentLink3Description: Package Specification; ComponentLink3URL: http://pdfserv.maximintegrated.com/package_dwgs/21-0137.PDF
footprint MAXM-T833-2_V (SON, 8-Leads, Body 3x3mm, Pitch 0.65mm, Thermal Pad 2.3x1.5mm, Recommended)
pins: 1 VDD (power) "Power-Supply Input. 2.7V to 5.25V voltage range. Bypass with a 0.1uF capacitor from VDD to GND.", 2 SCL (in) "I2C-Interface Clock Input", 3 SDA (io) "I2C-Interface Data Input", 4 A0 (in) "Address Input. Sets the A0 bit in the device ID address.", 5 GND (power) "Ground", 6 L "Low Terminal", 7 W "Wiper Terminal", 8 H "High Terminal", 9 EP (power) "Exposed Pad. Internally connected to GND. Connect to a large ground plane to maximize thermal performance. Not intended as an electrical point."

## MAX5419LETA+
designator U?
200 kOhm, I2C-Interface Digital Potentiometer with 2-Wire Serial Control Interface, Non-Volatile, Linear Taper, 256 Steps, -40 to 85 degC, 8-pin TDFN-EP (T833+2), Pb-Free; PartNumber: MAX5419LETA+; DatasheetVersion: Rev. 4; PackageVersion: Rev. J, 08/2009; PackageReference: T833+2; PackageDescription: 8-Pin Plastic Very Very Thin Dual Flatpack No Leads, Exposed Pad (T833+2); Supplier 1: Mouser; Supplier Part Number 1: N/A; Control Interface: 2-Wire Serial; Features: EEPROM Wiper Memory; Mounting Technology: Surface Mount; Code_JEDEC: MO229; ComponentLink1Description: Manufacturer URL; ComponentLink1URL: http://www.maximintegrated.com/; ComponentLink2Description: Datasheet; ComponentLink2URL: http://datasheets.maximintegrated.com/en/ds/MAX5417-MAX5419.pdf; ComponentLink3Description: Package Specification; ComponentLink3URL: http://pdfserv.maximintegrated.com/package_dwgs/21-0137.PDF
footprint MAXM-T833+2_V (SON, 8-Leads, Body 3x3 mm, Pitch 0.65mm, Thermal Pad 2.3x1.5mm)
pins: 1 VDD (power) "Power-Supply Input. 2.7V to 5.25V voltage range. Bypass with a 0.1uF capacitor from VDD to GND.", 2 SCL (in) "I2C-Interface Clock Input", 3 SDA (io) "I2C-Interface Data Input", 4 A0 (in) "Address Input. Sets the A0 bit in the device ID address.", 5 GND (power) "Ground", 6 L "Low Terminal", 7 W "Wiper Terminal", 8 H "High Terminal", 9 EP (power) "Exposed Pad. Internally connected to GND. Connect to a large ground plane to maximize thermal performance. Not intended as an electrical point."

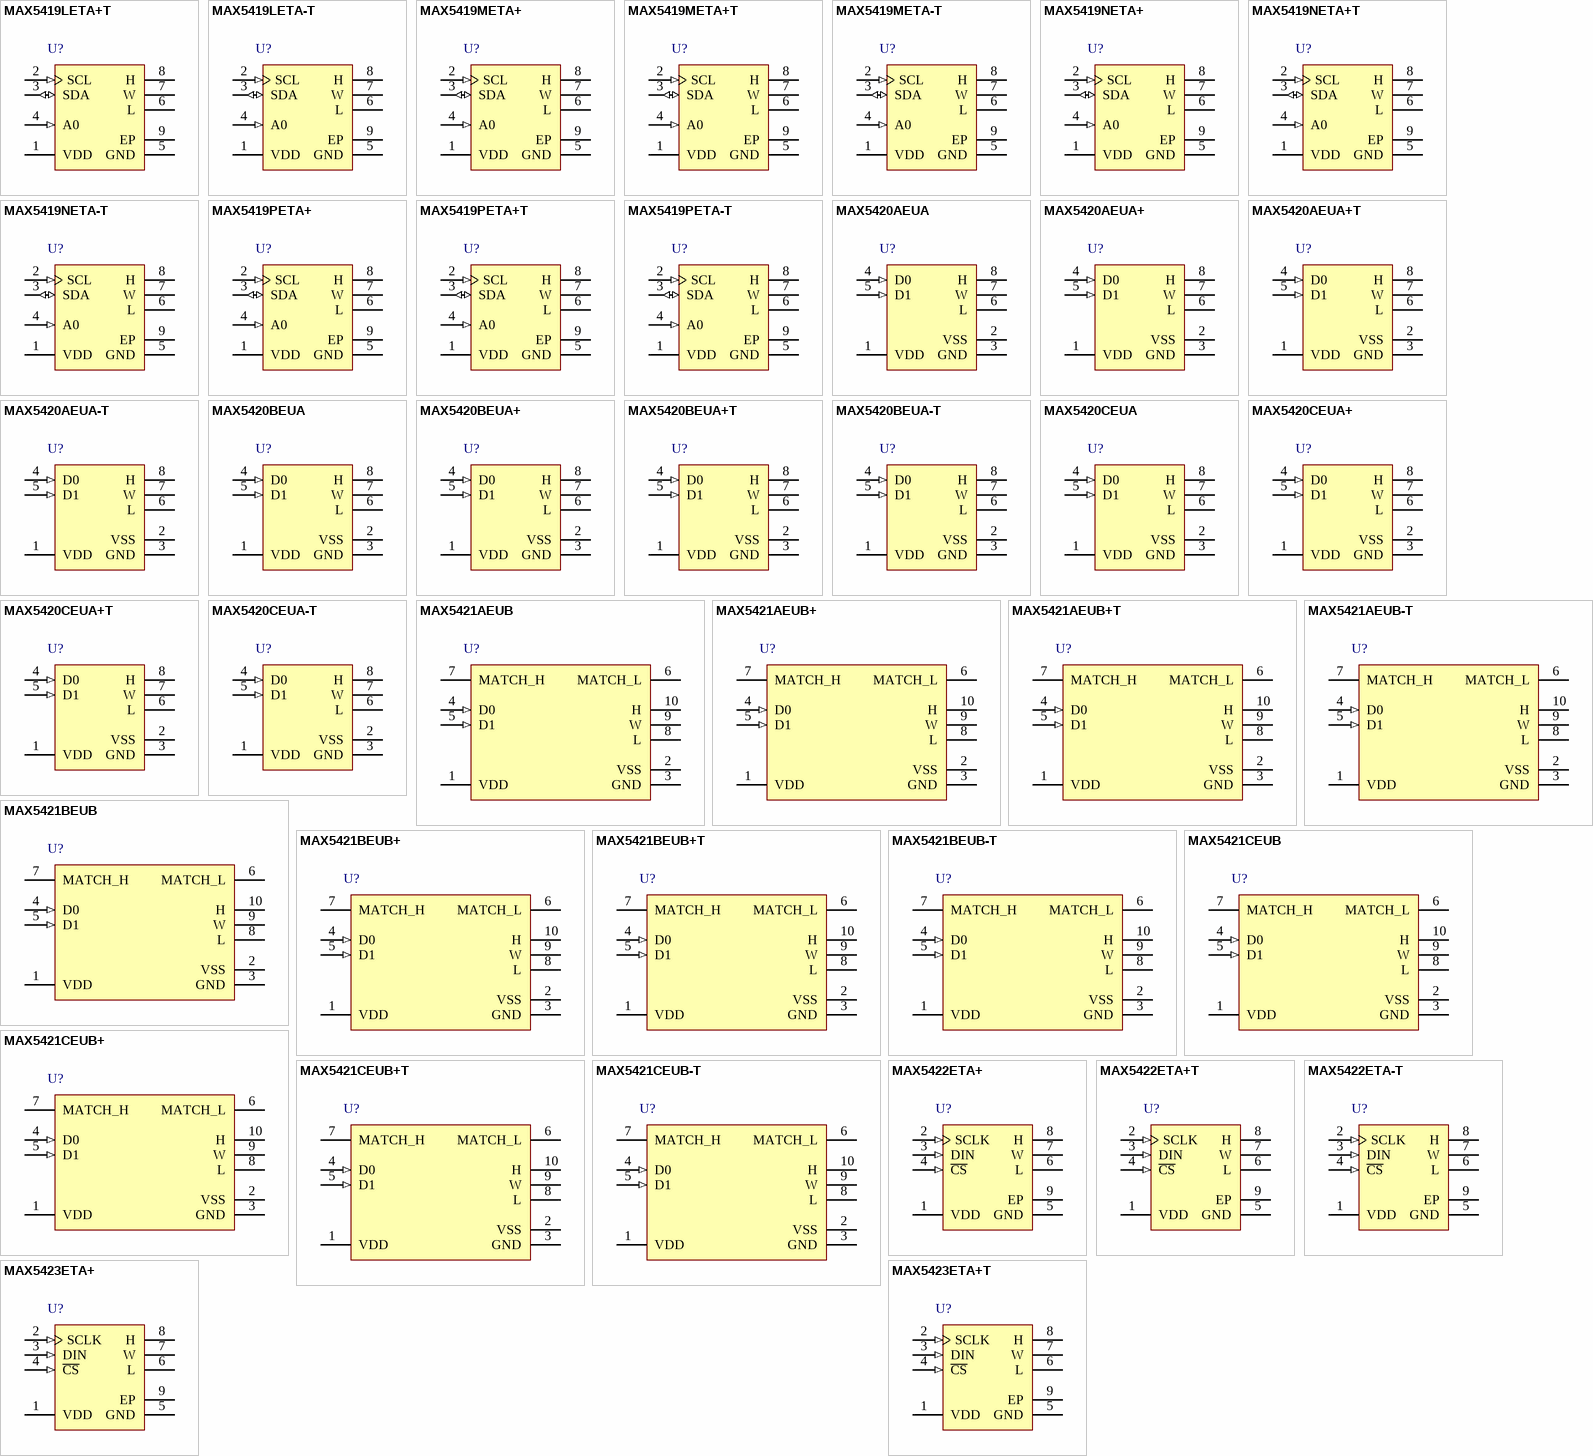
[diagram p17: symbols MAX5419LETA+T to MAX5423ETA+T]

## MAX5419LETA+T
designator U?
200 kOhm, I2C-Interface Digital Potentiometer with 2-Wire Serial Control Interface, Non-Volatile, Linear Taper, 256 Steps, -40 to 85 degC, 8-pin TDFN-EP (T833+2), Pb-Free, Tape and Reel; PartNumber: MAX5419LETA+T; DatasheetVersion: Rev. 4; PackageVersion: Rev. J, 08/2009; PackageReference: T833+2; PackageDescription: 8-Pin Plastic Very Very Thin Dual Flatpack No Leads, Exposed Pad (T833+2); Supplier 1: Digi-Key; Supplier Part Number 1: MAX5419LETA+TTR-ND; Supplier 2: Digi-Key; Supplier Part Number 2: MAX5419LETA+TCT-ND; Supplier 3: Digi-Key; Supplier Part Number 3: MAX5419LETA+TDKR-ND; Supplier 4: Mouser; Supplier Part Number 4: 700-MAX5419LETAT; Control Interface: 2-Wire Serial; Features: EEPROM Wiper Memory; Mounting Technology: Surface Mount; Code_JEDEC: MO229; ComponentLink1Description: Manufacturer URL; ComponentLink1URL: http://www.maximintegrated.com/; ComponentLink2Description: Datasheet; ComponentLink2URL: http://datasheets.maximintegrated.com/en/ds/MAX5417-MAX5419.pdf; ComponentLink3Description: Package Specification; ComponentLink3URL: http://pdfserv.maximintegrated.com/package_dwgs/21-0137.PDF
footprint MAXM-T833+2_V (SON, 8-Leads, Body 3x3 mm, Pitch 0.65mm, Thermal Pad 2.3x1.5mm)
pins: 1 VDD (power) "Power-Supply Input. 2.7V to 5.25V voltage range. Bypass with a 0.1uF capacitor from VDD to GND.", 2 SCL (in) "I2C-Interface Clock Input", 3 SDA (io) "I2C-Interface Data Input", 4 A0 (in) "Address Input. Sets the A0 bit in the device ID address.", 5 GND (power) "Ground", 6 L "Low Terminal", 7 W "Wiper Terminal", 8 H "High Terminal", 9 EP (power) "Exposed Pad. Internally connected to GND. Connect to a large ground plane to maximize thermal performance. Not intended as an electrical point."

## MAX5419LETA-T
designator U?
200 kOhm, I2C-Interface Digital Potentiometer with 2-Wire Serial Control Interface, Non-Volatile, Linear Taper, 256 Steps, -40 to 85 degC, 8-pin TDFN-EP (T833-2), Tape and Reel; PartNumber: MAX5419LETA-T; DatasheetVersion: Rev. 4; PackageVersion: Rev. J, 08/2009; PackageReference: T833-2; PackageDescription: 8-Pin Plastic Very Very Thin Dual Flatpack No Leads, Exposed Pad, Body 3 x 3 mm, Pitch 0.65 mm; Supplier 1: Mouser; Supplier Part Number 1: N/A; Control Interface: 2-Wire Serial; Features: EEPROM Wiper Memory; Mounting Technology: Surface Mount; Code_JEDEC: MO229; ComponentLink1Description: Manufacturer URL; ComponentLink1URL: http://www.maximintegrated.com/; ComponentLink2Description: Datasheet; ComponentLink2URL: http://datasheets.maximintegrated.com/en/ds/MAX5417-MAX5419.pdf; ComponentLink3Description: Package Specification; ComponentLink3URL: http://pdfserv.maximintegrated.com/package_dwgs/21-0137.PDF
footprint MAXM-T833-2_V (SON, 8-Leads, Body 3x3mm, Pitch 0.65mm, Thermal Pad 2.3x1.5mm, Recommended)
pins: 1 VDD (power) "Power-Supply Input. 2.7V to 5.25V voltage range. Bypass with a 0.1uF capacitor from VDD to GND.", 2 SCL (in) "I2C-Interface Clock Input", 3 SDA (io) "I2C-Interface Data Input", 4 A0 (in) "Address Input. Sets the A0 bit in the device ID address.", 5 GND (power) "Ground", 6 L "Low Terminal", 7 W "Wiper Terminal", 8 H "High Terminal", 9 EP (power) "Exposed Pad. Internally connected to GND. Connect to a large ground plane to maximize thermal performance. Not intended as an electrical point."

## MAX5419META+
designator U?
200 kOhm, I2C-Interface Digital Potentiometer with 2-Wire Serial Control Interface, Non-Volatile, Linear Taper, 256 Steps, -40 to 85 degC, 8-pin TDFN-EP (T833+2), Pb-Free; PartNumber: MAX5419META+; DatasheetVersion: Rev. 4; PackageVersion: Rev. J, 08/2009; PackageReference: T833+2; PackageDescription: 8-Pin Plastic Very Very Thin Dual Flatpack No Leads, Exposed Pad (T833+2); Supplier 1: Mouser; Supplier Part Number 1: N/A; Control Interface: 2-Wire Serial; Features: EEPROM Wiper Memory; Mounting Technology: Surface Mount; Code_JEDEC: MO229; ComponentLink1Description: Manufacturer URL; ComponentLink1URL: http://www.maximintegrated.com/; ComponentLink2Description: Datasheet; ComponentLink2URL: http://datasheets.maximintegrated.com/en/ds/MAX5417-MAX5419.pdf; ComponentLink3Description: Package Specification; ComponentLink3URL: http://pdfserv.maximintegrated.com/package_dwgs/21-0137.PDF
footprint MAXM-T833+2_V (SON, 8-Leads, Body 3x3 mm, Pitch 0.65mm, Thermal Pad 2.3x1.5mm)
pins: 1 VDD (power) "Power-Supply Input. 2.7V to 5.25V voltage range. Bypass with a 0.1uF capacitor from VDD to GND.", 2 SCL (in) "I2C-Interface Clock Input", 3 SDA (io) "I2C-Interface Data Input", 4 A0 (in) "Address Input. Sets the A0 bit in the device ID address.", 5 GND (power) "Ground", 6 L "Low Terminal", 7 W "Wiper Terminal", 8 H "High Terminal", 9 EP (power) "Exposed Pad. Internally connected to GND. Connect to a large ground plane to maximize thermal performance. Not intended as an electrical point."

## MAX5419META+T
designator U?
200 kOhm, I2C-Interface Digital Potentiometer with 2-Wire Serial Control Interface, Non-Volatile, Linear Taper, 256 Steps, -40 to 85 degC, 8-pin TDFN-EP (T833+2), Pb-Free, Tape and Reel; PartNumber: MAX5419META+T; DatasheetVersion: Rev. 4; PackageVersion: Rev. J, 08/2009; PackageReference: T833+2; PackageDescription: 8-Pin Plastic Very Very Thin Dual Flatpack No Leads, Exposed Pad (T833+2); Supplier 1: Digi-Key; Supplier Part Number 1: MAX5419META+T-ND; Supplier 2: Mouser; Supplier Part Number 2: 700-MAX5419METAT; Control Interface: 2-Wire Serial; Features: EEPROM Wiper Memory; Mounting Technology: Surface Mount; Code_JEDEC: MO229; ComponentLink1Description: Manufacturer URL; ComponentLink1URL: http://www.maximintegrated.com/; ComponentLink2Description: Datasheet; ComponentLink2URL: http://datasheets.maximintegrated.com/en/ds/MAX5417-MAX5419.pdf; ComponentLink3Description: Package Specification; ComponentLink3URL: http://pdfserv.maximintegrated.com/package_dwgs/21-0137.PDF
footprint MAXM-T833+2_V (SON, 8-Leads, Body 3x3 mm, Pitch 0.65mm, Thermal Pad 2.3x1.5mm)
pins: 1 VDD (power) "Power-Supply Input. 2.7V to 5.25V voltage range. Bypass with a 0.1uF capacitor from VDD to GND.", 2 SCL (in) "I2C-Interface Clock Input", 3 SDA (io) "I2C-Interface Data Input", 4 A0 (in) "Address Input. Sets the A0 bit in the device ID address.", 5 GND (power) "Ground", 6 L "Low Terminal", 7 W "Wiper Terminal", 8 H "High Terminal", 9 EP (power) "Exposed Pad. Internally connected to GND. Connect to a large ground plane to maximize thermal performance. Not intended as an electrical point."

## MAX5419META-T
designator U?
200 kOhm, I2C-Interface Digital Potentiometer with 2-Wire Serial Control Interface, Non-Volatile, Linear Taper, 256 Steps, -40 to 85 degC, 8-pin TDFN-EP (T833-2), Tape and Reel; PartNumber: MAX5419META-T; DatasheetVersion: Rev. 4; PackageVersion: Rev. J, 08/2009; PackageReference: T833-2; PackageDescription: 8-Pin Plastic Very Very Thin Dual Flatpack No Leads, Exposed Pad, Body 3 x 3 mm, Pitch 0.65 mm; Supplier 1: Mouser; Supplier Part Number 1: N/A; Control Interface: 2-Wire Serial; Features: EEPROM Wiper Memory; Mounting Technology: Surface Mount; Code_JEDEC: MO229; ComponentLink1Description: Manufacturer URL; ComponentLink1URL: http://www.maximintegrated.com/; ComponentLink2Description: Datasheet; ComponentLink2URL: http://datasheets.maximintegrated.com/en/ds/MAX5417-MAX5419.pdf; ComponentLink3Description: Package Specification; ComponentLink3URL: http://pdfserv.maximintegrated.com/package_dwgs/21-0137.PDF
footprint MAXM-T833-2_V (SON, 8-Leads, Body 3x3mm, Pitch 0.65mm, Thermal Pad 2.3x1.5mm, Recommended)
pins: 1 VDD (power) "Power-Supply Input. 2.7V to 5.25V voltage range. Bypass with a 0.1uF capacitor from VDD to GND.", 2 SCL (in) "I2C-Interface Clock Input", 3 SDA (io) "I2C-Interface Data Input", 4 A0 (in) "Address Input. Sets the A0 bit in the device ID address.", 5 GND (power) "Ground", 6 L "Low Terminal", 7 W "Wiper Terminal", 8 H "High Terminal", 9 EP (power) "Exposed Pad. Internally connected to GND. Connect to a large ground plane to maximize thermal performance. Not intended as an electrical point."

## MAX5419NETA+
designator U?
200 kOhm, I2C-Interface Digital Potentiometer with 2-Wire Serial Control Interface, Non-Volatile, Linear Taper, 256 Steps, -40 to 85 degC, 8-pin TDFN-EP (T833+2), Pb-Free; PartNumber: MAX5419NETA+; DatasheetVersion: Rev. 4; PackageVersion: Rev. J, 08/2009; PackageReference: T833+2; PackageDescription: 8-Pin Plastic Very Very Thin Dual Flatpack No Leads, Exposed Pad (T833+2); Supplier 1: Mouser; Supplier Part Number 1: N/A; Control Interface: 2-Wire Serial; Features: EEPROM Wiper Memory; Mounting Technology: Surface Mount; Code_JEDEC: MO229; ComponentLink1Description: Manufacturer URL; ComponentLink1URL: http://www.maximintegrated.com/; ComponentLink2Description: Datasheet; ComponentLink2URL: http://datasheets.maximintegrated.com/en/ds/MAX5417-MAX5419.pdf; ComponentLink3Description: Package Specification; ComponentLink3URL: http://pdfserv.maximintegrated.com/package_dwgs/21-0137.PDF
footprint MAXM-T833+2_V (SON, 8-Leads, Body 3x3 mm, Pitch 0.65mm, Thermal Pad 2.3x1.5mm)
pins: 1 VDD (power) "Power-Supply Input. 2.7V to 5.25V voltage range. Bypass with a 0.1uF capacitor from VDD to GND.", 2 SCL (in) "I2C-Interface Clock Input", 3 SDA (io) "I2C-Interface Data Input", 4 A0 (in) "Address Input. Sets the A0 bit in the device ID address.", 5 GND (power) "Ground", 6 L "Low Terminal", 7 W "Wiper Terminal", 8 H "High Terminal", 9 EP (power) "Exposed Pad. Internally connected to GND. Connect to a large ground plane to maximize thermal performance. Not intended as an electrical point."

## MAX5419NETA+T
designator U?
200 kOhm, I2C-Interface Digital Potentiometer with 2-Wire Serial Control Interface, Non-Volatile, Linear Taper, 256 Steps, -40 to 85 degC, 8-pin TDFN-EP (T833+2), Pb-Free, Tape and Reel; PartNumber: MAX5419NETA+T; DatasheetVersion: Rev. 4; PackageVersion: Rev. J, 08/2009; PackageReference: T833+2; PackageDescription: 8-Pin Plastic Very Very Thin Dual Flatpack No Leads, Exposed Pad (T833+2); Supplier 1: Digi-Key; Supplier Part Number 1: MAX5419NETA+T-ND; Supplier 2: Mouser; Supplier Part Number 2: 700-MAX5419NETAT; Control Interface: 2-Wire Serial; Features: EEPROM Wiper Memory; Mounting Technology: Surface Mount; Code_JEDEC: MO229; ComponentLink1Description: Manufacturer URL; ComponentLink1URL: http://www.maximintegrated.com/; ComponentLink2Description: Datasheet; ComponentLink2URL: http://datasheets.maximintegrated.com/en/ds/MAX5417-MAX5419.pdf; ComponentLink3Description: Package Specification; ComponentLink3URL: http://pdfserv.maximintegrated.com/package_dwgs/21-0137.PDF
footprint MAXM-T833+2_V (SON, 8-Leads, Body 3x3 mm, Pitch 0.65mm, Thermal Pad 2.3x1.5mm)
pins: 1 VDD (power) "Power-Supply Input. 2.7V to 5.25V voltage range. Bypass with a 0.1uF capacitor from VDD to GND.", 2 SCL (in) "I2C-Interface Clock Input", 3 SDA (io) "I2C-Interface Data Input", 4 A0 (in) "Address Input. Sets the A0 bit in the device ID address.", 5 GND (power) "Ground", 6 L "Low Terminal", 7 W "Wiper Terminal", 8 H "High Terminal", 9 EP (power) "Exposed Pad. Internally connected to GND. Connect to a large ground plane to maximize thermal performance. Not intended as an electrical point."

## MAX5419NETA-T
designator U?
200 kOhm, I2C-Interface Digital Potentiometer with 2-Wire Serial Control Interface, Non-Volatile, Linear Taper, 256 Steps, -40 to 85 degC, 8-pin TDFN-EP (T833-2), Tape and Reel; PartNumber: MAX5419NETA-T; DatasheetVersion: Rev. 4; PackageVersion: Rev. J, 08/2009; PackageReference: T833-2; PackageDescription: 8-Pin Plastic Very Very Thin Dual Flatpack No Leads, Exposed Pad, Body 3 x 3 mm, Pitch 0.65 mm; Supplier 1: Mouser; Supplier Part Number 1: N/A; Control Interface: 2-Wire Serial; Features: EEPROM Wiper Memory; Mounting Technology: Surface Mount; Code_JEDEC: MO229; ComponentLink1Description: Manufacturer URL; ComponentLink1URL: http://www.maximintegrated.com/; ComponentLink2Description: Datasheet; ComponentLink2URL: http://datasheets.maximintegrated.com/en/ds/MAX5417-MAX5419.pdf; ComponentLink3Description: Package Specification; ComponentLink3URL: http://pdfserv.maximintegrated.com/package_dwgs/21-0137.PDF
footprint MAXM-T833-2_V (SON, 8-Leads, Body 3x3mm, Pitch 0.65mm, Thermal Pad 2.3x1.5mm, Recommended)
pins: 1 VDD (power) "Power-Supply Input. 2.7V to 5.25V voltage range. Bypass with a 0.1uF capacitor from VDD to GND.", 2 SCL (in) "I2C-Interface Clock Input", 3 SDA (io) "I2C-Interface Data Input", 4 A0 (in) "Address Input. Sets the A0 bit in the device ID address.", 5 GND (power) "Ground", 6 L "Low Terminal", 7 W "Wiper Terminal", 8 H "High Terminal", 9 EP (power) "Exposed Pad. Internally connected to GND. Connect to a large ground plane to maximize thermal performance. Not intended as an electrical point."

## MAX5419PETA+
designator U?
200 kOhm, I2C-Interface Digital Potentiometer with 2-Wire Serial Control Interface, Non-Volatile, Linear Taper, 256 Steps, -40 to 85 degC, 8-pin TDFN-EP (T833+2), Pb-Free; PartNumber: MAX5419PETA+; DatasheetVersion: Rev. 4; PackageVersion: Rev. J, 08/2009; PackageReference: T833+2; PackageDescription: 8-Pin Plastic Very Very Thin Dual Flatpack No Leads, Exposed Pad (T833+2); Supplier 1: Mouser; Supplier Part Number 1: N/A; Control Interface: 2-Wire Serial; Features: EEPROM Wiper Memory; Mounting Technology: Surface Mount; Code_JEDEC: MO229; ComponentLink1Description: Manufacturer URL; ComponentLink1URL: http://www.maximintegrated.com/; ComponentLink2Description: Datasheet; ComponentLink2URL: http://datasheets.maximintegrated.com/en/ds/MAX5417-MAX5419.pdf; ComponentLink3Description: Package Specification; ComponentLink3URL: http://pdfserv.maximintegrated.com/package_dwgs/21-0137.PDF
footprint MAXM-T833+2_V (SON, 8-Leads, Body 3x3 mm, Pitch 0.65mm, Thermal Pad 2.3x1.5mm)
pins: 1 VDD (power) "Power-Supply Input. 2.7V to 5.25V voltage range. Bypass with a 0.1uF capacitor from VDD to GND.", 2 SCL (in) "I2C-Interface Clock Input", 3 SDA (io) "I2C-Interface Data Input", 4 A0 (in) "Address Input. Sets the A0 bit in the device ID address.", 5 GND (power) "Ground", 6 L "Low Terminal", 7 W "Wiper Terminal", 8 H "High Terminal", 9 EP (power) "Exposed Pad. Internally connected to GND. Connect to a large ground plane to maximize thermal performance. Not intended as an electrical point."